# Altium schematic symbol library DCP0105B_NVA.SchLib: 2 symbols
Pins are listed as number, name and electrical type; pins without a type are passive.

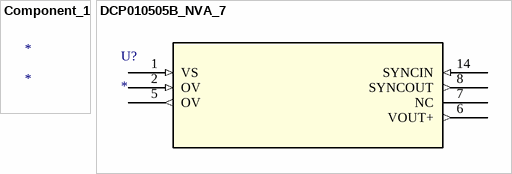
[diagram p0: symbols Component_1 to DCP010505B_NVA_7]

## Component_1
designator *

## DCP010505B_NVA_7
designator U?
Imported; Manufacturer: Texas Instruments; Manufacturer_Part_Number: DCP010505B_NVA_7; Built_By: EMA_UL_Team; C: Copyright (C) 2015 Accelerated Designs. All rights reserved; Vendor: Texas Instruments; RefDes: RefDes; Type: DEV; Value: Value
footprint NVA7
pins: 1 VS (in), 2 OV (in), 5 OV (out), 6 VOUT+ (out), 7 NC, 8 SYNCOUT (out), 14 SYNCIN (in)